# Altium footprint library SHDR8W100P0X508_1X8_4224X1200X890P.PcbLib: 1 footprints
Each footprint in its own frame and in the unit in brackets; x right, y up, seen from the top. Pads: shape width x height; smd on the part's side, far side on the other; paste and mask are expansions set on the pad; w line width, h text height; cw(c..) or ccw(c..) is an arc to the next point about the centre after c.
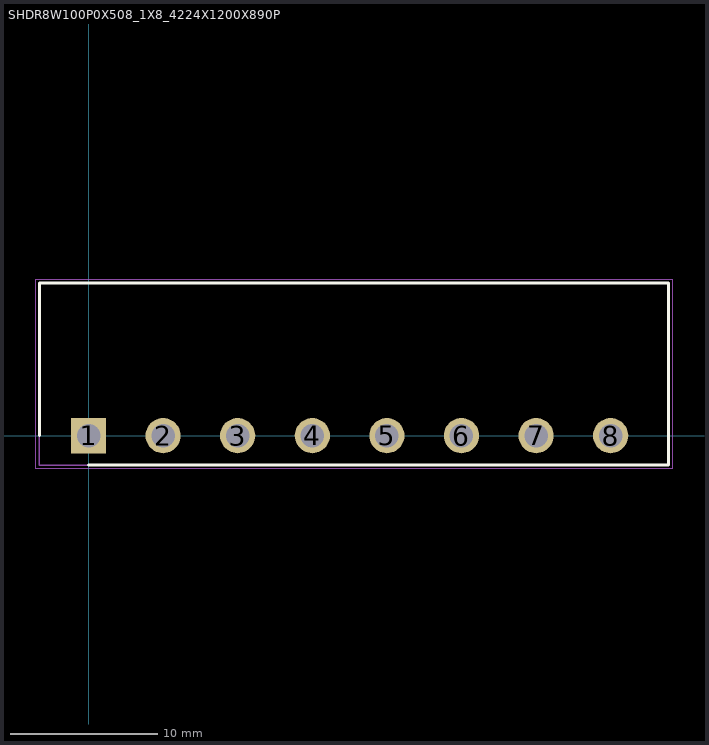
[diagram p0: the footprint, top view; thin cyan lines are the x and y axes]

## SHDR8W100P0X508_1X8_4224X1200X890P [mm]
pads (8):
  rect 2.4x2.4 / inner round 2.4 / far side rect 2.4x2.4 hole 1.6: 1(0,0)
  round 2.4 hole 1.6: 2(5.08,0) 3(10.16,0) 4(15.24,0) 5(20.32,0) 6(25.4,0) 7(30.48,0) 8(35.56,0)
Top Overlay:
  lines w0.2: -3.34,0 -3.34,10.4 39.5,10.4 39.5,-2 0,-2
Mechanical 15:
  lines w0.1: -3.34,-2 -3.34,10.4 39.5,10.4 39.5,-2 -3.34,-2
Mechanical 20:
  lines w0.05: -3.59,-2.25 -3.59,10.65 39.75,10.65 39.75,-2.25 -3.59,-2.25